# Altium schematic symbol library Gate Driver Board_1.SCHLIB: 16 symbols
Pins are listed as number, name and electrical type; pins without a type are passive.

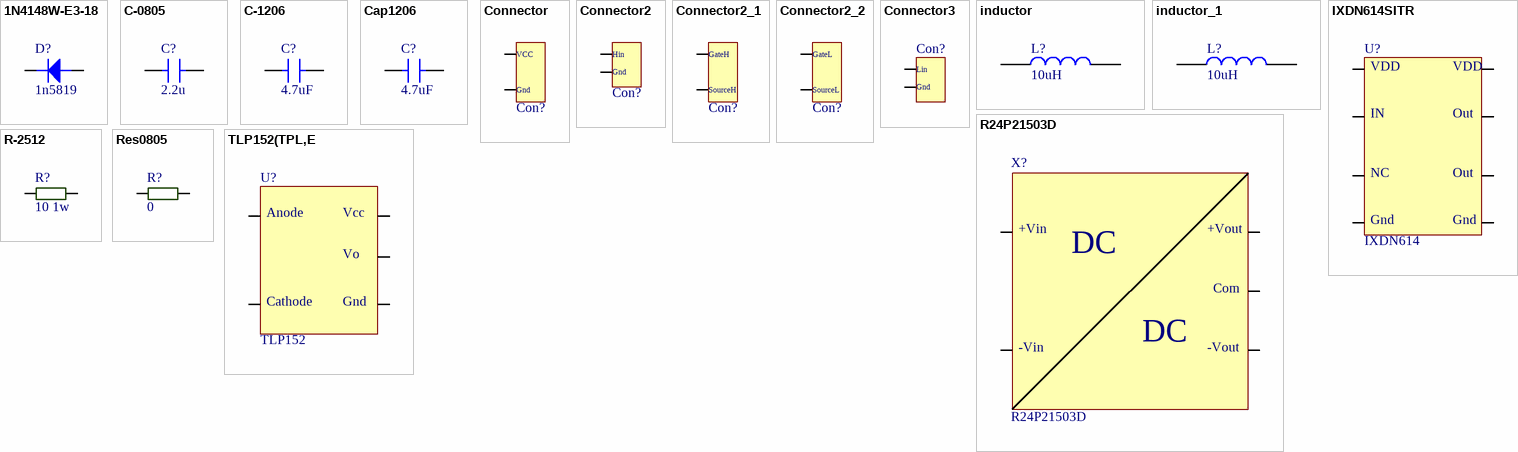
[diagram p0: symbols 1N4148W-E3-18 to TLP152(TPL,E]

## 1N4148W-E3-18
designator D?, comment 1n5819
DIODE SCHOTTKY 1A 40V SOD123; Manufacturer: HOTTECH; Özdisan Part Number: B5819W; ComponentLink1URL: https://datasheet.ciiva.com/29885/1n4148w-29885941.pdf?src-supplier=Avnet; ComponentLink1Description: https://datasheet.ciiva.com/29885/1n4148w-29885941.pdf?src-supplier=Avnet; ComponentLink2URL: https://datasheet.ciiva.com/29593/1n4148w-29593113.pdf?src-supplier=Digi-Key; ComponentLink2Description: https://datasheet.ciiva.com/29593/1n4148w-29593113.pdf?src-supplier=Digi-Key; ComponentLink3URL: https://datasheet.ciiva.com/29593/1n4148w-29593111.pdf?src-supplier=Digi-Key; ComponentLink3Description: https://datasheet.ciiva.com/29593/1n4148w-29593111.pdf?src-supplier=Digi-Key; ComponentLink4URL: https://datasheet.ciiva.com/29593/1n4148w-29593112.pdf?src-supplier=Digi-Key; ComponentLink4Description: https://datasheet.ciiva.com/29593/1n4148w-29593112.pdf?src-supplier=Digi-Key; Link: https://www.ozdisan.com/guc-yari-iletkenleri/diyot-modul-diyot-dogrultucular/schottky-diyotlar/B5819W; Price: 0,04258
footprint SOD123
pins: a, k

## C-0805
designator C?, comment 2.2u
MLCC (2012) 0805 2.2uF 50VDC ±10% X5R; Manufacturer: SAMSUNG; Özdisan Part Number: CL21A225KBQNNNE; Price: 0,04880; Link: https://www.ozdisan.com/pasif-komponentler/kondansatorler/smd-kondansatorler-mlcc/CL21A225KBQNNNE
footprint C-0805
pins: 1, 2

## C-1206
designator C?, comment 4.7uF
MLCC (3216) 1206 4.7uF 50VDC ±10% X7R; Özdisan Part Number: CL31B475KBHNNNE; Manufacturer: SAMSUNG; Link: https://www.ozdisan.com/pasif-komponentler/kondansatorler/smd-kondansatorler-mlcc/CL31B475KBHNNNE; Price: 0,10407
footprint C-1206
pins: 1, 2

## Cap1206
designator C?, comment 4.7uF
MLCC (3216) 1206 4.7uF 50VDC ±10% X7R; Özdisan Part Number: CL31B475KBHNNNE; Manufacturer: SAMSUNG; Link: https://www.ozdisan.com/pasif-komponentler/kondansatorler/smd-kondansatorler-mlcc/CL31B475KBHNNNE; Price: 0,10407
footprint C-1206
pins: 1, 2

## Connector
designator Con?  (value not drawn)
PIN HEADER 40PIN(1x40) 2.54mm THT V/T; Özdisan Part Number: KLS1-207-1-40-S-3X9.5X15; Manufacturer: KLS ELECTRONIC; Link: https://www.ozdisan.com/konnektor-baglanti-elemanlari/headers/pin-header/KLS1-207-1-40-S-3X9-5X15; Price: 0,17227
footprint Conn
pins: 1, 2
text: VCC; Gnd

## Connector2
designator Con?  (value not drawn)
PIN HEADER 40PIN(1x40) 2.54mm THT V/T; Özdisan Part Number: KLS1-207-1-40-S-3X9.5X15; Manufacturer: KLS ELECTRONIC; Price: 0,17227; Link: https://www.ozdisan.com/konnektor-baglanti-elemanlari/headers/pin-header/KLS1-207-1-40-S-3X9-5X15
footprint Conn
pins: 1, 2
text: Hin; Gnd

## Connector2_1
designator Con?  (value not drawn)
PIN HEADER 40PIN(1x40) 2.54mm THT V/T; Özdisan Part Number: KLS1-207-1-40-S-3X9.5X15; Manufacturer: KLS ELECTRONIC; Price: 0,17227; Link: https://www.ozdisan.com/konnektor-baglanti-elemanlari/headers/pin-header/KLS1-207-1-40-S-3X9-5X15
footprint Conn
pins: 1, 2
text: GateH; SourceH

## Connector2_2
designator Con?  (value not drawn)
PIN HEADER 40PIN(1x40) 2.54mm THT V/T; Özdisan Part Number: KLS1-207-1-40-S-3X9.5X15; Manufacturer: KLS ELECTRONIC; Price: 0,17227; Link: https://www.ozdisan.com/konnektor-baglanti-elemanlari/headers/pin-header/KLS1-207-1-40-S-3X9-5X15
footprint Conn
pins: 1, 2
text: GateL; SourceL

## Connector3
designator Con?  (value not drawn)
PIN HEADER 40PIN(1x40) 2.54mm THT V/T; Özdisan Part Number: KLS1-207-1-40-S-3X9.5X15; Manufacturer: KLS ELECTRONIC; Link: https://www.ozdisan.com/konnektor-baglanti-elemanlari/headers/pin-header/KLS1-207-1-40-S-3X9-5X15; Price: 0,17227
footprint Conn
pins: 1, 2
text: Lin; Gnd

## inductor
designator L?, comment 10uH
INDUCTOR POWER 10UH 2.8X2.8X2.8MM SMD; Özdisan Part Number: 744025100; Manufacturer: WURTH; Link: https://www.ozdisan.com/pasif-komponentler/induktorler/sabit-induktor/744025100; Price: 0,74325
footprint WE-TPC_282892
pins: 1, 2

## inductor_1
designator L?, comment 10uH
INDUCTOR POWER 10UH 2.8X2.8X2.8MM SMD; Özdisan Part Number: 744025100; Manufacturer: WURTH; Link: https://www.ozdisan.com/pasif-komponentler/induktorler/sabit-induktor/744025100; Price: 0,74325
footprint WE-TPC_282892
pins: 1, 2

## IXDN614SITR
designator U?, comment IXDN614
IC-614 DRIVER MOSFET/IGBT SOIC8 IXYS CLARE; Özdisan Part Number: IXDN614SI; ComponentLink1URL: https://datasheet.ciiva.com/6613/ixd-614-6613145.pdf?src-supplier=Digi-Key; ComponentLink1Description: https://datasheet.ciiva.com/6613/ixd-614-6613145.pdf?src-supplier=Digi-Key; Manufacturer: IXYS CLARE; Price: 3,90467; Link: https://www.ozdisan.com/entegre-devreler-ics/guc-entegreleri/ic-guc-surucu-entegreleri/IXDN614SI
footprint FAN3122 Soic8 (SOIC, 8-Leads, Body 4.95x3.95mm, Pitch 1.27mm, Thermal Pad 4.10x3.10mm, IPC Medium Density)
pins: 1, 2, 3, 4, 5, 6, 7, 8
text: VDD; IN; Out; NC; Gnd

## R24P21503D
designator X?
DC/DC CONV 2W 12VDC +15/-3VDC 93mA/-185mA SIP7; Manufacturer: RECOM; Özdisan Part Number: R12P21503D; Link: https://www.ozdisan.com/guc-kaynaklari-adaptorler/izole-donusturucu-moduller/dcdc-donusturuculer/R12P21503D; Price: 11,27149
footprint SIP7
pins: 1, 2, 5, 6, 7
text: +Vin; +Vout; DC; Com; -Vin; -Vout

## R-2512
designator R?, comment 10 1w
RES.(6432) 2512 5.1 Ohms 5% 1W 400PPM; Manufacturer: ROYALOHM; Özdisan Part Number: 25121WJ051JT4E; Price: 0,02294; Link: https://www.ozdisan.com/pasif-komponentler/direncler/smt-smd-direncler/25121WJ051JT4E
footprint R-2512
pins: 1, 2

## Res0805
designator R?, comment 0
RES.(2012) 0805 0 Ohms 5% 1/8W-S 800PPM; Manufacturer: ROYALOHM; Özdisan Part Number: 0805S8J0000T5E; Link: https://www.ozdisan.com/pasif-komponentler/direncler/smt-smd-direncler/0805S8J0000T5E; Price: 0,00234
footprint R-0805
pins: 1, 2

## TLP152(TPL,E
designator U?, comment TLP152
IC-152 PHOTOCOUPLER GATE DRIVE SO6 TOSHIBA; Özdisan Part Number: TLP152(TPL,E; ComponentLink1URL: https://datasheet.ciiva.com/41848/tlp152-datasheet-en-20120914-41848928.pdf?src-supplier=Digi-Key; ComponentLink1Description: https://datasheet.ciiva.com/41848/tlp152-datasheet-en-20120914-41848928.pdf?src-supplier=Digi-Key; Price: 0,80155; Link: https://www.ozdisan.com/optolar-sensorler/optolar/gate-surucu-optokuplorleri/TLP152TPLE; Manufacturer: TOSHIBA
footprint TLP152 (SOTFL, 5-Leads, Body 3.75x7.20mm, Pitch 1.27mm, IPC Medium Density)
pins: 1, 2, 3, 4, 5
text: Anode; Vcc; Vo; Cathode; Gnd